# Altium footprint library project.PcbLib: 19 footprints (part 2 of 2)
Each footprint in its own frame and in the unit in brackets; x right, y up, seen from the top. Pads: shape width x height; smd on the part's side, far side on the other; paste and mask are expansions set on the pad; w line width, h text height; cw(c..) or ccw(c..) is an arc to the next point about the centre after c.
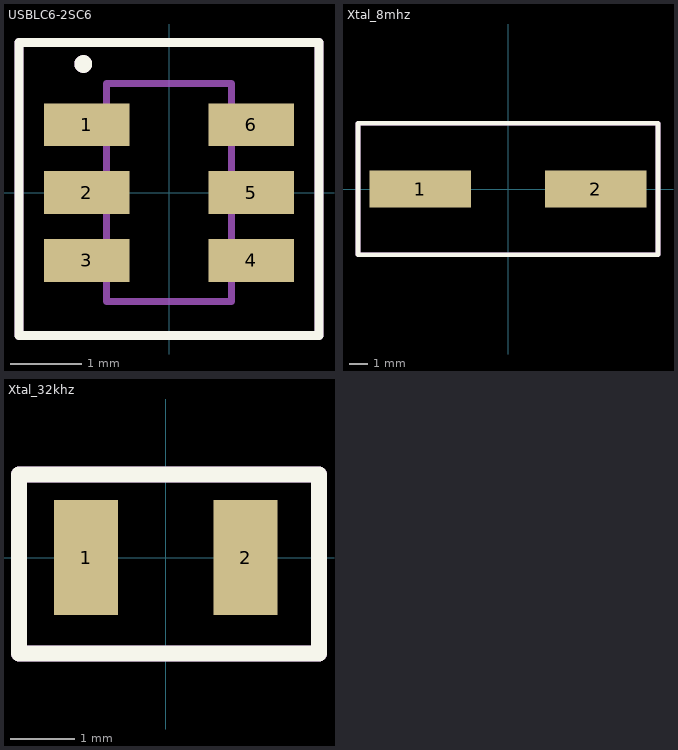
[diagram p1: the footprints below, top view; thin cyan lines are the x and y axes]

## USBLC6-2SC6 [mm]
height 1.15
pads (6):
  rect 1.2x0.6 smd: 1(-1.15,0.95) 2(-1.15,0) 3(-1.15,-0.95) 4(1.15,-0.95) 5(1.15,0) 6(1.15,0.95)
Top Overlay:
  circle w0.125: c-1.2,1.8 r0.062
  lines w0.127: -2.1,-2 -2.1,2.1 2.1,2.1 2.1,-2 -2.1,-2
Top Assembly:
  circle w0.125: c-1.2,1.8 r0.062
  lines w0.1: -0.875,-1.525 -0.875,1.525 0.875,1.525 0.875,-1.525 -0.875,-1.525
Assembly Notes:
  lines w0.127: -2.1,-2 -2.1,2.1 2.1,2.1 2.1,-2 -2.1,-2
  text ".Designator" at -1.8,-0.15 h0.8
3D body "SOT23127P600-8N.step": height 1.15, standoff 0, extent -1.6,-1.462 1.6,1.462

## Xtal_8mhz [mm]
pads (2):
  rect 5.5x2 smd paste+0 mask+0.05: 1(-4.75,0) 2(4.75,0)
Top Overlay:
  lines w0.254: -8.128,-3.556 8.128,-3.556 8.128,3.556 -8.128,3.556 -8.128,-3.556
Assembly Notes:
  lines w0.254: -8.128,-3.556 8.128,-3.556 8.128,3.556 -8.128,3.556 -8.128,-3.556
  text ".Designator" at -2.286,2.728 h1
3D body "Crystal 49SMT H4,3mm.stp": height 4.3, standoff 0, extent -6.4,-2.415 6.4,2.415

## Xtal_32khz [mm]
pads (2):
  rect 1x1.8 smd paste+0 mask+0.05: 1(-1.25,0) 2(1.25,0)
Top Overlay:
  lines w0.254: -2.3,-1.5 2.3,-1.5 2.4,-1.5 2.4,1.3 2.1,1.3 -2.2,1.3 -2.3,1.3 -2.3,-1.5
Assembly Notes:
  lines w0.254: -2.3,-1.5 2.3,-1.5 2.4,-1.5 2.4,1.3 -2.3,1.3 -2.3,-1.5
  text ".Designator" at -1.3,-0.006 h0.5
3D body "Crystal_3215.stp": height 0.8, standoff -0.03, extent -1.6,-0.75 1.6,0.75